# EAGLE library part QFP52 (library mita-akiba)
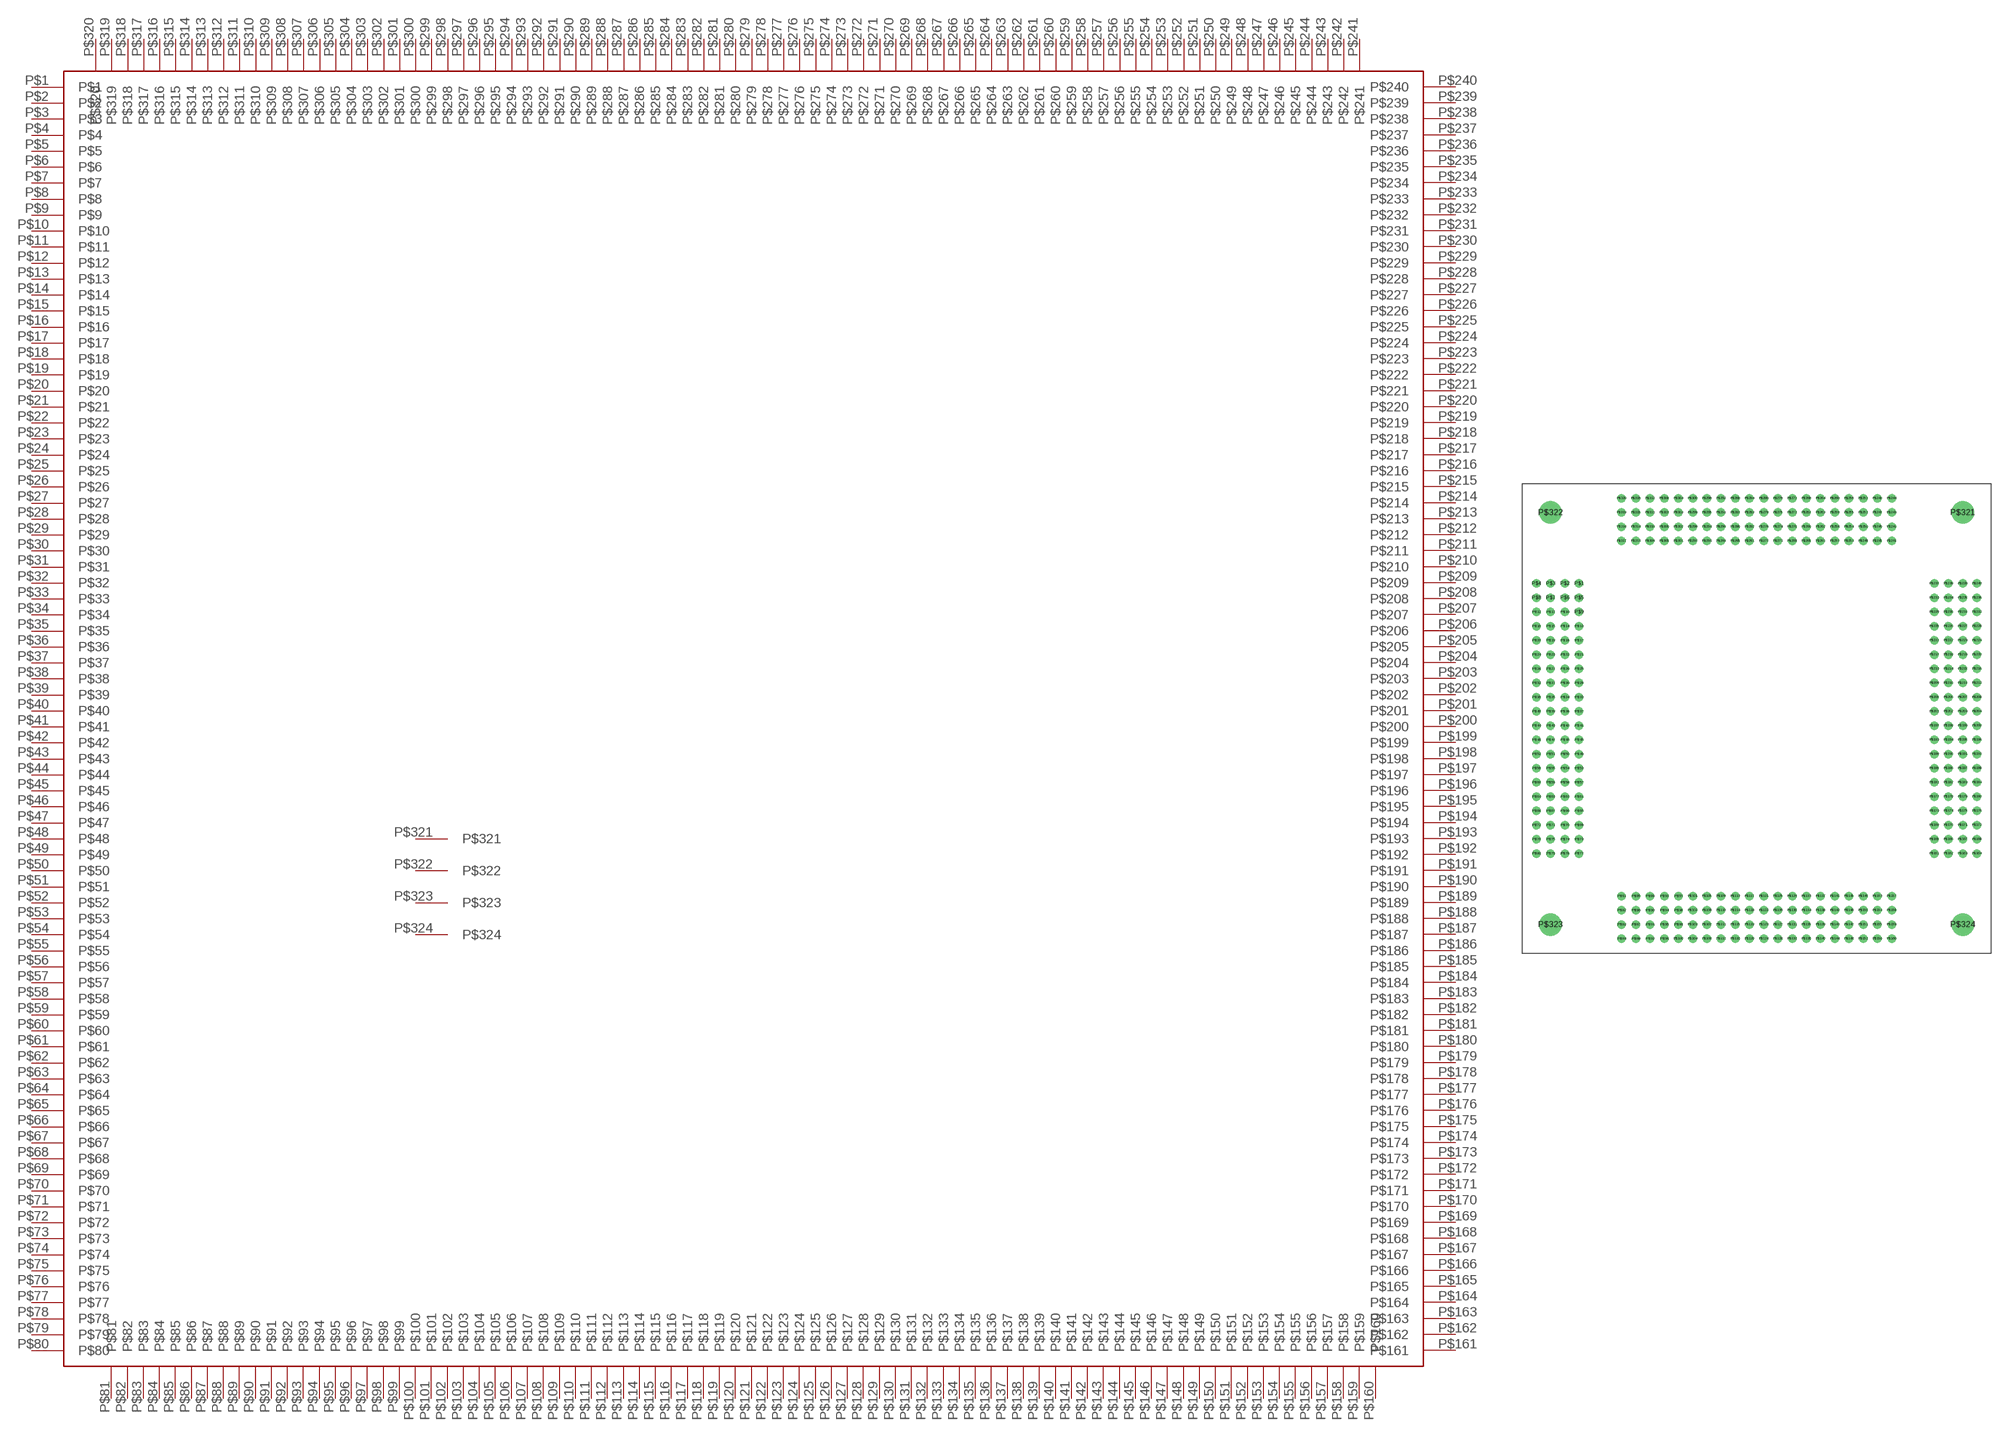
[diagram p7: symbol with the pads of QFP52; footprint QFP52]

Designator prefix -

## QFP52  [QFP52]
P$1  P$1
P$2  P$2
P$3  P$3
P$4  P$4
P$5  P$5
P$6  P$6
P$7  P$7
P$8  P$8
P$9  P$9
P$10  P$10
P$11  P$11
P$12  P$12
P$13  P$13
P$14  P$14
P$15  P$15
P$16  P$16
P$17  P$17
P$18  P$18
P$19  P$19
P$20  P$20
P$21  P$21
P$22  P$22
P$23  P$23
P$24  P$24
P$25  P$25
P$26  P$26
P$27  P$27
P$28  P$28
P$29  P$29
P$30  P$30
P$31  P$31
P$32  P$32
P$33  P$33
P$34  P$34
P$35  P$35
P$36  P$36
P$37  P$37
P$38  P$38
P$39  P$39
P$40  P$40
P$41  P$41
P$42  P$42
P$43  P$43
P$44  P$44
P$45  P$45
P$46  P$46
P$47  P$47
P$48  P$48
P$49  P$49
P$50  P$50
P$51  P$51
P$52  P$52
P$53  P$53
P$54  P$54
P$55  P$55
P$56  P$56
P$57  P$57
P$58  P$58
P$59  P$59
P$60  P$60
P$61  P$61
P$62  P$62
P$63  P$63
P$64  P$64
P$65  P$65
P$66  P$66
P$67  P$67
P$68  P$68
P$69  P$69
P$70  P$70
P$71  P$71
P$72  P$72
P$73  P$73
P$74  P$74
P$75  P$75
P$76  P$76
P$77  P$77
P$78  P$78
P$79  P$79
P$80  P$80
P$81  P$81
P$82  P$82
P$83  P$83
P$84  P$84
P$85  P$85
P$86  P$86
P$87  P$87
P$88  P$88
P$89  P$89
P$90  P$90
P$91  P$91
P$92  P$92
P$93  P$93
P$94  P$94
P$95  P$95
P$96  P$96
P$97  P$97
P$98  P$98
P$99  P$99
P$100  P$100
P$101  P$101
P$102  P$102
P$103  P$103
P$104  P$104
P$105  P$105
P$106  P$106
P$107  P$107
P$108  P$108
P$109  P$109
P$110  P$110
P$111  P$111
P$112  P$112
P$113  P$113
P$114  P$114
P$115  P$115
P$116  P$116
P$117  P$117
P$118  P$118
P$119  P$119
P$120  P$120
P$121  P$121
P$122  P$122
P$123  P$123
P$124  P$124
P$125  P$125
P$126  P$126
P$127  P$127
P$128  P$128
P$129  P$129
P$130  P$130
P$131  P$131
P$132  P$132
P$133  P$133
P$134  P$134
P$135  P$135
P$136  P$136
P$137  P$137
P$138  P$138
P$139  P$139
P$140  P$140
P$141  P$141
P$142  P$142
P$143  P$143
P$144  P$144
P$145  P$145
P$146  P$146
P$147  P$147
P$148  P$148
P$149  P$149
P$150  P$150
P$151  P$151
P$152  P$152
P$153  P$153
P$154  P$154
P$155  P$155
P$156  P$156
P$157  P$157
P$158  P$158
P$159  P$159
P$160  P$160
P$161  P$161
P$162  P$162
P$163  P$163
P$164  P$164
P$165  P$165
P$166  P$166
P$167  P$167
P$168  P$168
P$169  P$169
P$170  P$170
P$171  P$171
P$172  P$172
P$173  P$173
P$174  P$174
P$175  P$175
P$176  P$176
P$177  P$177
P$178  P$178
P$179  P$179
P$180  P$180
P$181  P$181
P$182  P$182
P$183  P$183
P$184  P$184
P$185  P$185
P$186  P$186
P$187  P$187
P$188  P$188
P$189  P$189
P$190  P$190
P$191  P$191
P$192  P$192
P$193  P$193
P$194  P$194
P$195  P$195
P$196  P$196
P$197  P$197
P$198  P$198
P$199  P$199
P$200  P$200
P$201  P$201
P$202  P$202
P$203  P$203
P$204  P$204
P$205  P$205
P$206  P$206
P$207  P$207
P$208  P$208
P$209  P$209
P$210  P$210
P$211  P$211
P$212  P$212
P$213  P$213
P$214  P$214
P$215  P$215
P$216  P$216
P$217  P$217
P$218  P$218
P$219  P$219
P$220  P$220
P$221  P$221
P$222  P$222
P$223  P$223
P$224  P$224
P$225  P$225
P$226  P$226
P$227  P$227
P$228  P$228
P$229  P$229
P$230  P$230
P$231  P$231
P$232  P$232
P$233  P$233
P$234  P$234
P$235  P$235
P$236  P$236
P$237  P$237
P$238  P$238
P$239  P$239
P$240  P$240
P$241  P$241
P$242  P$242
P$243  P$243
P$244  P$244
P$245  P$245
P$246  P$246
P$247  P$247
P$248  P$248
P$249  P$249
P$250  P$250
P$251  P$251
P$252  P$252
P$253  P$253
P$254  P$254
P$255  P$255
P$256  P$256
P$257  P$257
P$258  P$258
P$259  P$259
P$260  P$260
P$261  P$261
P$262  P$262
P$263  P$263
P$264  P$264
P$265  P$265
P$266  P$266
P$267  P$267
P$268  P$268
P$269  P$269
P$270  P$270
P$271  P$271
P$272  P$272
P$273  P$273
P$274  P$274
P$275  P$275
P$276  P$276
P$277  P$277
P$278  P$278
P$279  P$279
P$280  P$280
P$281  P$281
P$282  P$282
P$283  P$283
P$284  P$284
P$285  P$285
P$286  P$286
P$287  P$287
P$288  P$288
P$289  P$289
P$290  P$290
P$291  P$291
P$292  P$292
P$293  P$293
P$294  P$294
P$295  P$295
P$296  P$296
P$297  P$297
P$298  P$298
P$299  P$299
P$300  P$300
P$301  P$301
P$302  P$302
P$303  P$303
P$304  P$304
P$305  P$305
P$306  P$306
P$307  P$307
P$308  P$308
P$309  P$309
P$310  P$310
P$311  P$311
P$312  P$312
P$313  P$313
P$314  P$314
P$315  P$315
P$316  P$316
P$317  P$317
P$318  P$318
P$319  P$319
P$320  P$320
P$321  P$321
P$322  P$322
P$323  P$323
P$324  P$324

## Footprint QFP52 (pad centres in mm)
drill 0.9 pad 1.5: P$1 -31.75,24.13; P$2 -34.29,24.13; P$3 -36.83,24.13; P$4 -39.37,24.13; P$5 -31.75,21.59; P$6 -34.29,21.59; P$7 -36.83,21.59; P$8 -39.37,21.59; P$9 -31.75,19.05; P$10 -34.29,19.05; P$11 -36.83,19.05; P$12 -39.37,19.05; P$13 -31.75,16.51; P$14 -34.29,16.51; P$15 -36.83,16.51; P$16 -39.37,16.51; P$17 -31.75,13.97; P$18 -34.29,13.97; P$19 -36.83,13.97; P$20 -39.37,13.97; P$21 -31.75,11.43; P$22 -34.29,11.43; P$23 -36.83,11.43; P$24 -39.37,11.43; P$25 -31.75,8.89; P$26 -34.29,8.89; P$27 -36.83,8.89; P$28 -39.37,8.89; P$29 -31.75,6.35; P$30 -34.29,6.35; P$31 -36.83,6.35; P$32 -39.37,6.35; P$33 -31.75,3.81; P$34 -34.29,3.81; P$35 -36.83,3.81; P$36 -39.37,3.81; P$37 -31.75,1.27; P$38 -34.29,1.27; P$39 -36.83,1.27; P$40 -39.37,1.27; P$41 -31.75,-1.27; P$42 -34.29,-1.27; P$43 -36.83,-1.27; P$44 -39.37,-1.27; P$45 -31.75,-3.81; P$46 -34.29,-3.81; P$47 -36.83,-3.81; P$48 -39.37,-3.81; P$49 -31.75,-6.35; P$50 -34.29,-6.35; P$51 -36.83,-6.35; P$52 -39.37,-6.35; P$53 -31.75,-8.89; P$54 -34.29,-8.89; P$55 -36.83,-8.89; P$56 -39.37,-8.89; P$57 -31.75,-11.43; P$58 -34.29,-11.43; P$59 -36.83,-11.43; P$60 -39.37,-11.43; P$61 -31.75,-13.97; P$62 -34.29,-13.97; P$63 -36.83,-13.97; P$64 -39.37,-13.97; P$65 -31.75,-16.51; P$66 -34.29,-16.51; P$67 -36.83,-16.51; P$68 -39.37,-16.51; P$69 -31.75,-19.05; P$70 -34.29,-19.05; P$71 -36.83,-19.05; P$72 -39.37,-19.05; P$73 -31.75,-21.59; P$74 -34.29,-21.59; P$75 -36.83,-21.59; P$76 -39.37,-21.59; P$77 -31.75,-24.13; P$78 -34.29,-24.13; P$79 -36.83,-24.13; P$80 -39.37,-24.13; P$81 -24.13,-31.75; P$82 -24.13,-34.29; P$83 -24.13,-36.83; P$84 -24.13,-39.37; P$85 -21.59,-31.75; P$86 -21.59,-34.29; P$87 -21.59,-36.83; P$88 -21.59,-39.37; P$89 -19.05,-31.75; P$90 -19.05,-34.29; P$91 -19.05,-36.83; P$92 -19.05,-39.37; P$93 -16.51,-31.75; P$94 -16.51,-34.29; P$95 -16.51,-36.83; P$96 -16.51,-39.37; P$97 -13.97,-31.75; P$98 -13.97,-34.29; P$99 -13.97,-36.83; P$100 -13.97,-39.37; P$101 -11.43,-31.75; P$102 -11.43,-34.29; P$103 -11.43,-36.83; P$104 -11.43,-39.37; P$105 -8.89,-31.75; P$106 -8.89,-34.29; P$107 -8.89,-36.83; P$108 -8.89,-39.37; P$109 -6.35,-31.75; P$110 -6.35,-34.29; P$111 -6.35,-36.83; P$112 -6.35,-39.37; P$113 -3.81,-31.75; P$114 -3.81,-34.29; P$115 -3.81,-36.83; P$116 -3.81,-39.37; P$117 -1.27,-31.75; P$118 -1.27,-34.29; P$119 -1.27,-36.83; P$120 -1.27,-39.37; P$121 1.27,-31.75; P$122 1.27,-34.29; P$123 1.27,-36.83; P$124 1.27,-39.37; P$125 3.81,-31.75; P$126 3.81,-34.29; P$127 3.81,-36.83; P$128 3.81,-39.37; P$129 6.35,-31.75; P$130 6.35,-34.29; P$131 6.35,-36.83; P$132 6.35,-39.37; P$133 8.89,-31.75; P$134 8.89,-34.29; P$135 8.89,-36.83; P$136 8.89,-39.37; P$137 11.43,-31.75; P$138 11.43,-34.29; P$139 11.43,-36.83; P$140 11.43,-39.37; P$141 13.97,-31.75; P$142 13.97,-34.29; P$143 13.97,-36.83; P$144 13.97,-39.37; P$145 16.51,-31.75; P$146 16.51,-34.29; P$147 16.51,-36.83; P$148 16.51,-39.37; P$149 19.05,-31.75; P$150 19.05,-34.29; P$151 19.05,-36.83; P$152 19.05,-39.37; P$153 21.59,-31.75; P$154 21.59,-34.29; P$155 21.59,-36.83; P$156 21.59,-39.37; P$157 24.13,-31.75; P$158 24.13,-34.29; P$159 24.13,-36.83; P$160 24.13,-39.37; P$161 31.75,-24.13; P$162 34.29,-24.13; P$163 36.83,-24.13; P$164 39.37,-24.13; P$165 31.75,-21.59; P$166 34.29,-21.59; P$167 36.83,-21.59; P$168 39.37,-21.59; P$169 31.75,-19.05; P$170 34.29,-19.05; P$171 36.83,-19.05; P$172 39.37,-19.05; P$173 31.75,-16.51; P$174 34.29,-16.51; P$175 36.83,-16.51; P$176 39.37,-16.51; P$177 31.75,-13.97; P$178 34.29,-13.97; P$179 36.83,-13.97; P$180 39.37,-13.97; P$181 31.75,-11.43; P$182 34.29,-11.43; P$183 36.83,-11.43; P$184 39.37,-11.43; P$185 31.75,-8.89; P$186 34.29,-8.89; P$187 36.83,-8.89; P$188 39.37,-8.89; P$189 31.75,-6.35; P$190 34.29,-6.35; P$191 36.83,-6.35; P$192 39.37,-6.35; P$193 31.75,-3.81; P$194 34.29,-3.81; P$195 36.83,-3.81; P$196 39.37,-3.81; P$197 31.75,-1.27; P$198 34.29,-1.27; P$199 36.83,-1.27; P$200 39.37,-1.27; P$201 31.75,1.27; P$202 34.29,1.27; P$203 36.83,1.27; P$204 39.37,1.27; P$205 31.75,3.81; P$206 34.29,3.81; P$207 36.83,3.81; P$208 39.37,3.81; P$209 31.75,6.35; P$210 34.29,6.35; P$211 36.83,6.35; P$212 39.37,6.35; P$213 31.75,8.89; P$214 34.29,8.89; P$215 36.83,8.89; P$216 39.37,8.89; P$217 31.75,11.43; P$218 34.29,11.43; P$219 36.83,11.43; P$220 39.37,11.43; P$221 31.75,13.97; P$222 34.29,13.97; P$223 36.83,13.97; P$224 39.37,13.97; P$225 31.75,16.51; P$226 34.29,16.51; P$227 36.83,16.51; P$228 39.37,16.51; P$229 31.75,19.05; P$230 34.29,19.05; P$231 36.83,19.05; P$232 39.37,19.05; P$233 31.75,21.59; P$234 34.29,21.59; P$235 36.83,21.59; P$236 39.37,21.59; P$237 31.75,24.13; P$238 34.29,24.13; P$239 36.83,24.13; P$240 39.37,24.13; P$241 24.13,31.75; P$242 24.13,34.29; P$243 24.13,36.83; P$244 24.13,39.37; P$245 21.59,31.75; P$246 21.59,34.29; P$247 21.59,36.83; P$248 21.59,39.37; P$249 19.05,31.75; P$250 19.05,34.29; P$251 19.05,36.83; P$252 19.05,39.37; P$253 16.51,31.75; P$254 16.51,34.29; P$255 16.51,36.83; P$256 16.51,39.37; P$257 13.97,31.75; P$258 13.97,34.29; P$259 13.97,36.83; P$260 13.97,39.37; P$261 11.43,31.75; P$262 11.43,34.29; P$263 11.43,36.83; P$264 11.43,39.37; P$265 8.89,31.75; P$266 8.89,34.29; P$267 8.89,36.83; P$268 8.89,39.37; P$269 6.35,31.75; P$270 6.35,34.29; P$271 6.35,36.83; P$272 6.35,39.37; P$273 3.81,31.75; P$274 3.81,34.29; P$275 3.81,36.83; P$276 3.81,39.37; P$277 1.27,31.75; P$278 1.27,34.29; P$279 1.27,36.83; P$280 1.27,39.37; P$281 -1.27,31.75; P$282 -1.27,34.29; P$283 -1.27,36.83; P$284 -1.27,39.37; P$285 -3.81,31.75; P$286 -3.81,34.29; P$287 -3.81,36.83; P$288 -3.81,39.37; P$289 -6.35,31.75; P$290 -6.35,34.29; P$291 -6.35,36.83; P$292 -6.35,39.37; P$293 -8.89,31.75; P$294 -8.89,34.29; P$295 -8.89,36.83; P$296 -8.89,39.37; P$297 -11.43,31.75; P$298 -11.43,34.29; P$299 -11.43,36.83; P$300 -11.43,39.37; P$301 -13.97,31.75; P$302 -13.97,34.29; P$303 -13.97,36.83; P$304 -13.97,39.37; P$305 -16.51,31.75; P$306 -16.51,34.29; P$307 -16.51,36.83; P$308 -16.51,39.37; P$309 -19.05,31.75; P$310 -19.05,34.29; P$311 -19.05,36.83; P$312 -19.05,39.37; P$313 -21.59,31.75; P$314 -21.59,34.29; P$315 -21.59,36.83; P$316 -21.59,39.37; P$317 -24.13,31.75; P$318 -24.13,34.29; P$319 -24.13,36.83; P$320 -24.13,39.37
drill 3 pad 4: P$321 36.83,36.83; P$322 -36.83,36.83; P$323 -36.83,-36.83; P$324 36.83,-36.83